# EAGLE library part 2TIERBLOCKX3 (library jet-lib)
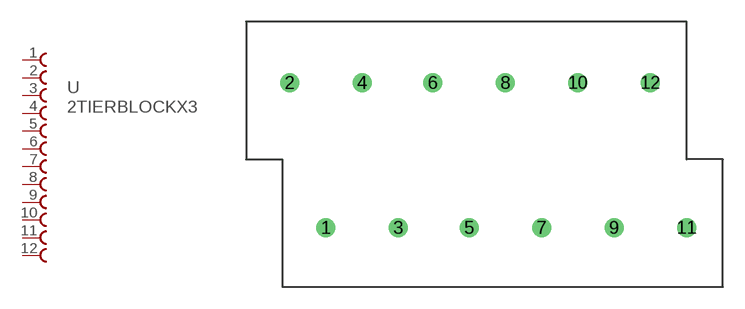
[diagram p2: symbol with the pads of 2TIERX3; footprint 2TIERX3]

Designator prefix -

## 2TIERBLOCKX3  [2TIERX3]
1  1  pas
2  2  pas
3  3  pas
4  4  pas
5  5  pas
6  6  pas
7  7  pas
8  8  pas
9  9  pas
10  10  pas
11  11  pas
12  12  pas

## Footprint 2TIERX3 (pad centres in mm)
drill 0.8: 1 0,0; 2 -2.5,10; 3 5,0; 4 2.5,10; 5 9.88,0; 6 7.38,10; 7 14.88,0; 8 12.38,10; 9 19.88,0; 10 17.38,10; 11 24.88,0; 12 22.38,10